# EAGLE library part EDGE86CONN (library mjg)
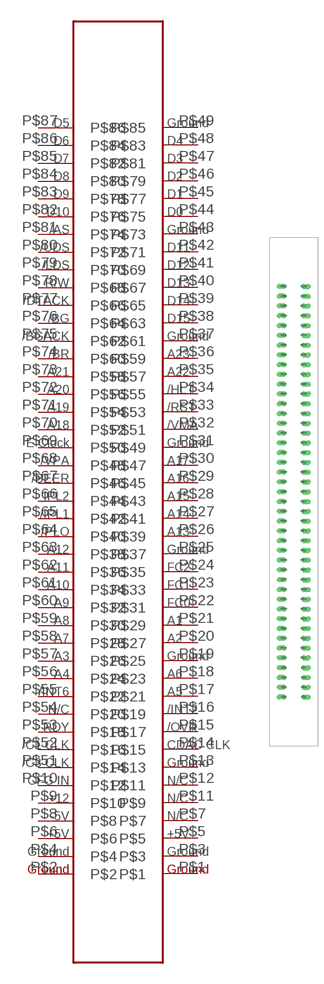
[diagram p0: symbol with the pads of EDGE86V; footprint EDGE86V]

Designator prefix -

## EDGE86CONNVERTICAL  [EDGE86V]
P$1  P$1
P$2  P$2
P$3  P$3
P$4  P$4
P$5  P$5
P$6  P$6
P$7  P$7
P$8  P$8
P$9  P$10
P$10  P$12
P$11  P$9
P$12  P$11
P$13  P$13
P$14  P$15
P$15  P$17
P$16  P$19
P$17  P$21
P$18  P$23
P$19  P$25
P$20  P$27
P$21  P$29
P$22  P$31
P$23  P$33
P$24  P$35
P$25  P$37
P$26  P$39
P$27  P$41
P$28  P$43
P$29  P$45
P$30  P$47
P$31  P$49
P$32  P$51
P$33  P$53
P$34  P$55
P$35  P$57
P$36  P$59
P$37  P$61
P$38  P$63
P$39  P$65
P$40  P$67
P$41  P$69
P$42  P$71
P$43  P$73
P$44  P$75
P$45  P$77
P$46  P$79
P$47  P$81
P$48  P$83
P$49  P$85
P$51  P$14
P$52  P$16
P$53  P$18
P$54  P$20
P$55  P$22
P$56  P$24
P$57  P$26
P$58  P$28
P$59  P$30
P$60  P$32
P$61  P$34
P$62  P$36
P$63  P$38
P$64  P$40
P$65  P$42
P$66  P$44
P$67  P$46
P$68  P$48
P$69  P$50
P$70  P$52
P$71  P$54
P$72  P$56
P$73  P$58
P$74  P$60
P$75  P$62
P$76  P$64
P$77  P$66
P$78  P$68
P$79  P$70
P$80  P$72
P$81  P$74
P$82  P$76
P$83  P$78
P$84  P$80
P$85  P$82
P$86  P$84
P$87  P$86

## Footprint EDGE86V (pad centres in mm)
drill 0.8 offset: P$1 2.54,0; P$2 -2.54,0; P$3 2.54,2.54; P$4 -2.54,2.54; P$5 2.54,5.08; P$6 -2.54,5.08; P$7 2.54,7.62; P$8 -2.54,7.62; P$9 -2.54,10.16; P$10 -2.54,12.7; P$11 2.54,10.16; P$12 2.54,12.7; P$13 2.54,15.24; P$14 2.54,17.78; P$15 2.54,20.32; P$16 2.54,22.86; P$17 2.54,25.4; P$18 2.54,27.94; P$19 2.54,30.48; P$20 2.54,33.02; P$21 2.54,35.56; P$22 2.54,38.1; P$23 2.54,40.64; P$24 2.54,43.18; P$25 2.54,45.72; P$26 2.54,48.26; P$27 2.54,50.8; P$28 2.54,53.34; P$29 2.54,55.88; P$30 2.54,58.42; P$31 2.54,60.96; P$32 2.54,63.5; P$33 2.54,66.04; P$34 2.54,68.58; P$35 2.54,71.12; P$36 2.54,73.66; P$37 2.54,76.2; P$38 2.54,78.74; P$39 2.54,81.28; P$40 2.54,83.82; P$41 2.54,86.36; P$42 2.54,88.9; P$43 2.54,91.44; P$44 2.54,93.98; P$45 2.54,96.52; P$46 2.54,99.06; P$47 2.54,101.6; P$48 2.54,104.14; P$49 2.54,106.68; P$51 -2.54,15.24; P$52 -2.54,17.78; P$53 -2.54,20.32; P$54 -2.54,22.86; P$55 -2.54,25.4; P$56 -2.54,27.94; P$57 -2.54,30.48; P$58 -2.54,33.02; P$59 -2.54,35.56; P$60 -2.54,38.1; P$61 -2.54,40.64; P$62 -2.54,43.18; P$63 -2.54,45.72; P$64 -2.54,48.26; P$65 -2.54,50.8; P$66 -2.54,53.34; P$67 -2.54,55.88; P$68 -2.54,58.42; P$69 -2.54,60.96; P$70 -2.54,63.5; P$71 -2.54,66.04; P$72 -2.54,68.58; P$73 -2.54,71.12; P$74 -2.54,73.66; P$75 -2.54,76.2; P$76 -2.54,78.74; P$77 -2.54,81.28; P$78 -2.54,83.82; P$79 -2.54,86.36; P$80 -2.54,88.9; P$81 -2.54,91.44; P$82 -2.54,93.98; P$83 -2.54,96.52; P$84 -2.54,99.06; P$85 -2.54,101.6; P$86 -2.54,104.14; P$87 -2.54,106.68